# Altium footprint library Connector_Molex.PcbLib: 815 footprints (part 27 of 51)
Each footprint in its own frame and in the unit in brackets; x right, y up, seen from the top. Pads: shape width x height; smd on the part's side, far side on the other; paste and mask are expansions set on the pad; w line width, h text height; cw(c..) or ccw(c..) is an arc to the next point about the centre after c.
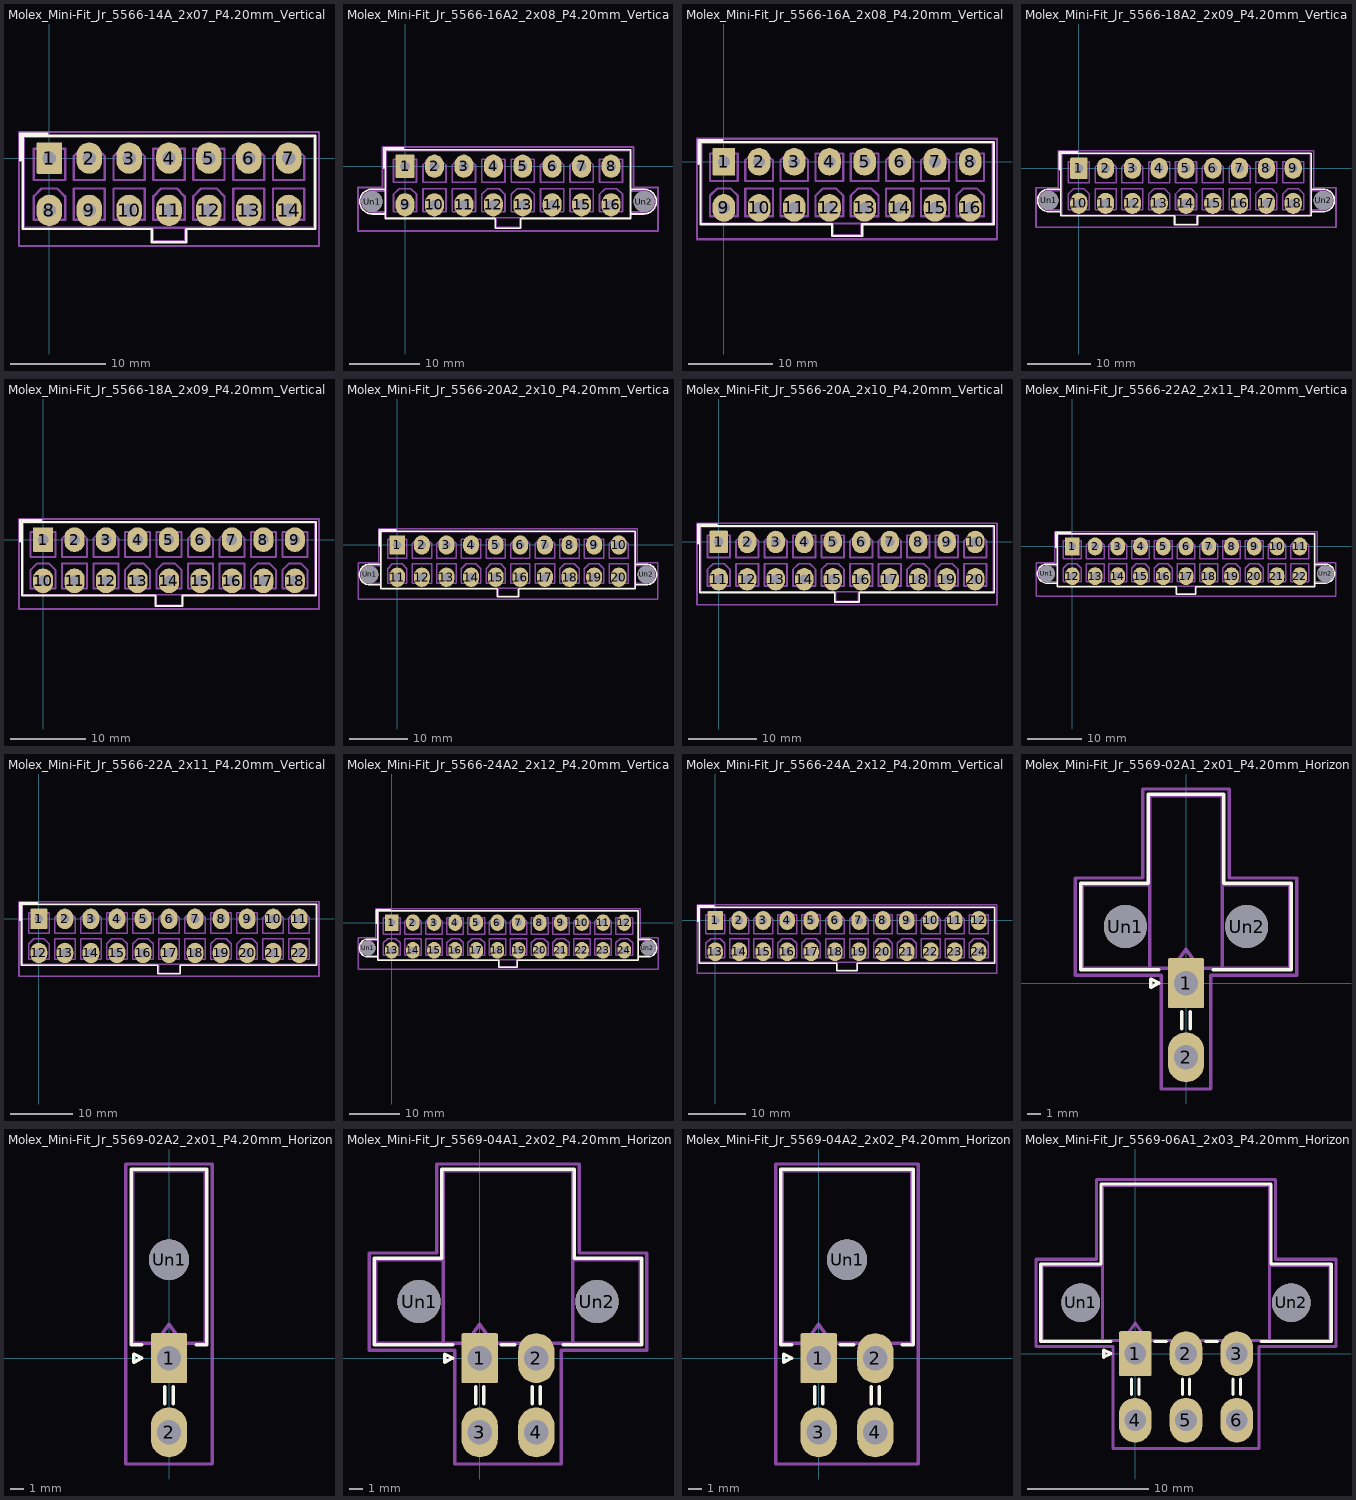
[diagram p26: the footprints below, top view; thin cyan lines are the x and y axes]

## Molex_Mini-Fit_Jr_5566-14A_2x07_P4.20mm_Vertical [mm]
pads (14):
  rrect9% 2.7x3.3 hole 1.4: 1(0,0)
  rrect100% 2.7x3.3 hole 1.4: 2(4.2,0) 3(8.4,0) 4(12.6,0) 5(16.8,0) 6(21,0) 7(25.2,0) 8(0,-5.5) 9(4.2,-5.5) 10(8.4,-5.5) 11(12.6,-5.5) 12(16.8,-5.5) 13(21,-5.5) 14(25.2,-5.5)
F.SilkS:
  lines w0.254: -3.05,-0.25 -3.05,2.6 -0.2,2.6 ; -2.81,-7.46 10.79,-7.46 10.79,-8.86 12.6,-8.86 14.41,-8.86 14.41,-7.46 28.01,-7.46 28.01,2.36 12.6,2.36 -2.81,2.36 -2.81,-7.46
Top Assembly:
  lines w0.254: -3.05,-0.25 -3.05,2.6 -0.2,2.6 ; 10.9,-7.35 10.9,-8.75 14.3,-8.75 14.3,-7.35 ; -2.7,-7.35 27.9,-7.35 27.9,2.25 -2.7,2.25 -2.7,-7.35 ; -1.65,-6.5 1.65,-6.5 1.65,-4.025 0.825,-3.2 -0.825,-3.2 -1.65,-4.025 -1.65,-6.5 ; -1.65,-2.3 1.65,-2.3 1.65,1 -1.65,1 -1.65,-2.3 ; 2.55,-6.5 5.85,-6.5 5.85,-3.2 2.55,-3.2 2.55,-6.5 ; 2.55,-2.3 5.85,-2.3 5.85,0.175 5.025,1 3.375,1 2.55,0.175 2.55,-2.3 ; 6.75,-6.5 10.05,-6.5 10.05,-3.2 6.75,-3.2 6.75,-6.5 ; 6.75,-2.3 10.05,-2.3 10.05,0.175 9.225,1 7.575,1 6.75,0.175 6.75,-2.3 ; 10.95,-6.5 14.25,-6.5 14.25,-4.025 13.425,-3.2 11.775,-3.2 10.95,-4.025 10.95,-6.5 ; 10.95,-2.3 14.25,-2.3 14.25,1 10.95,1 10.95,-2.3 ; 15.15,-6.5 18.45,-6.5 18.45,-4.025 17.625,-3.2 15.975,-3.2 15.15,-4.025 15.15,-6.5 ; 15.15,-2.3 18.45,-2.3 18.45,1 15.15,1 15.15,-2.3 ; 19.35,-6.5 22.65,-6.5 22.65,-3.2 19.35,-3.2 19.35,-6.5 ; 19.35,-2.3 22.65,-2.3 22.65,0.175 21.825,1 20.175,1 19.35,0.175 19.35,-2.3 ; 23.55,-6.5 26.85,-6.5 26.85,-3.2 23.55,-3.2 23.55,-6.5 ; 23.55,-2.3 26.85,-2.3 26.85,0.175 26.025,1 24.375,1 23.55,0.175 23.55,-2.3
  text "'.Designator'" at 8.553,0.71 h1
Top Courtyard:
  lines w0.254: -3.2,-9.25 28.4,-9.25 28.4,2.75 -3.2,2.75 -3.2,-9.25
Top Designator:
  text ".Designator" at 4.982,-3.758 h1.52

## Molex_Mini-Fit_Jr_5566-16A2_2x08_P4.20mm_Vertical [mm]
pads (18):
  rrect9% 2.7x3.3 hole 1.4: 1(0,0)
  rrect100% 2.7x3.3 hole 1.4: 2(4.2,0) 3(8.4,0) 4(12.6,0) 5(16.8,0) 6(21,0) 7(25.2,0) 8(29.4,0) 9(0,-5.5) 10(4.2,-5.5) 11(8.4,-5.5) 12(12.6,-5.5) 13(16.8,-5.5) 14(21,-5.5) 15(25.2,-5.5) 16(29.4,-5.5)
  round 3 hole 3: Un1(-4.7,-5.04) Un2(34.1,-5.04)
F.SilkS:
  lines w0.254: -3.05,-0.25 -3.05,2.6 -0.2,2.6 ; -2.81,-6.8 -4.7,-6.8 cw(c-4.7,-5.04) -4.7,-3.28 -2.81,-3.28 ; 32.21,-6.8 34.1,-6.8 ccw(c34.1,-5.04) 34.1,-3.28 32.21,-3.28 ; -2.81,-7.46 12.89,-7.46 12.89,-8.86 14.7,-8.86 16.51,-8.86 16.51,-7.46 32.21,-7.46 32.21,2.36 14.7,2.36 -2.81,2.36 -2.81,-7.46
Top Assembly:
  lines w0.254: -3.05,-0.25 -3.05,2.6 -0.2,2.6 ; -2.7,-6.54 -4.7,-6.54 cw(c-4.7,-5.04) -4.7,-3.54 -2.7,-3.54 ; 13,-7.35 13,-8.75 16.4,-8.75 16.4,-7.35 ; 32.1,-6.54 34.1,-6.54 ccw(c34.1,-5.04) 34.1,-3.54 32.1,-3.54 ; -2.7,-7.35 32.1,-7.35 32.1,2.25 -2.7,2.25 -2.7,-7.35 ; -1.65,-6.5 1.65,-6.5 1.65,-4.025 0.825,-3.2 -0.825,-3.2 -1.65,-4.025 -1.65,-6.5 ; -1.65,-2.3 1.65,-2.3 1.65,1 -1.65,1 -1.65,-2.3 ; 2.55,-6.5 5.85,-6.5 5.85,-3.2 2.55,-3.2 2.55,-6.5 ; 2.55,-2.3 5.85,-2.3 5.85,0.175 5.025,1 3.375,1 2.55,0.175 2.55,-2.3 ; 6.75,-6.5 10.05,-6.5 10.05,-3.2 6.75,-3.2 6.75,-6.5 ; 6.75,-2.3 10.05,-2.3 10.05,0.175 9.225,1 7.575,1 6.75,0.175 6.75,-2.3 ; 10.95,-6.5 14.25,-6.5 14.25,-4.025 13.425,-3.2 11.775,-3.2 10.95,-4.025 10.95,-6.5 ; 10.95,-2.3 14.25,-2.3 14.25,1 10.95,1 10.95,-2.3 ; 15.15,-6.5 18.45,-6.5 18.45,-4.025 17.625,-3.2 15.975,-3.2 15.15,-4.025 15.15,-6.5 ; 15.15,-2.3 18.45,-2.3 18.45,1 15.15,1 15.15,-2.3 ; 19.35,-6.5 22.65,-6.5 22.65,-3.2 19.35,-3.2 19.35,-6.5 ; 19.35,-2.3 22.65,-2.3 22.65,0.175 21.825,1 20.175,1 19.35,0.175 19.35,-2.3 ; 23.55,-6.5 26.85,-6.5 26.85,-3.2 23.55,-3.2 23.55,-6.5 ; 23.55,-2.3 26.85,-2.3 26.85,0.175 26.025,1 24.375,1 23.55,0.175 23.55,-2.3 ; 27.75,-6.5 31.05,-6.5 31.05,-4.025 30.225,-3.2 28.575,-3.2 27.75,-4.025 27.75,-6.5 ; 27.75,-2.3 31.05,-2.3 31.05,1 27.75,1 27.75,-2.3
  text "'.Designator'" at 10.653,0.71 h1
Top Courtyard:
  lines w0.254: -6.71,-9.25 36.1,-9.25 36.1,-3.04 32.6,-3.04 32.6,2.75 -3.21,2.75 -3.21,-3.04 -6.71,-3.04 -6.71,-9.25
Top Designator:
  text ".Designator" at 7.077,-3.758 h1.52

## Molex_Mini-Fit_Jr_5566-16A_2x08_P4.20mm_Vertical [mm]
pads (16):
  rrect9% 2.7x3.3 hole 1.4: 1(0,0)
  rrect100% 2.7x3.3 hole 1.4: 2(4.2,0) 3(8.4,0) 4(12.6,0) 5(16.8,0) 6(21,0) 7(25.2,0) 8(29.4,0) 9(0,-5.5) 10(4.2,-5.5) 11(8.4,-5.5) 12(12.6,-5.5) 13(16.8,-5.5) 14(21,-5.5) 15(25.2,-5.5) 16(29.4,-5.5)
F.SilkS:
  lines w0.254: -3.05,-0.25 -3.05,2.6 -0.2,2.6 ; -2.81,-7.46 12.89,-7.46 12.89,-8.86 14.7,-8.86 16.51,-8.86 16.51,-7.46 32.21,-7.46 32.21,2.36 14.7,2.36 -2.81,2.36 -2.81,-7.46
Top Assembly:
  lines w0.254: -3.05,-0.25 -3.05,2.6 -0.2,2.6 ; 13,-7.35 13,-8.75 16.4,-8.75 16.4,-7.35 ; -2.7,-7.35 32.1,-7.35 32.1,2.25 -2.7,2.25 -2.7,-7.35 ; -1.65,-6.5 1.65,-6.5 1.65,-4.025 0.825,-3.2 -0.825,-3.2 -1.65,-4.025 -1.65,-6.5 ; -1.65,-2.3 1.65,-2.3 1.65,1 -1.65,1 -1.65,-2.3 ; 2.55,-6.5 5.85,-6.5 5.85,-3.2 2.55,-3.2 2.55,-6.5 ; 2.55,-2.3 5.85,-2.3 5.85,0.175 5.025,1 3.375,1 2.55,0.175 2.55,-2.3 ; 6.75,-6.5 10.05,-6.5 10.05,-3.2 6.75,-3.2 6.75,-6.5 ; 6.75,-2.3 10.05,-2.3 10.05,0.175 9.225,1 7.575,1 6.75,0.175 6.75,-2.3 ; 10.95,-6.5 14.25,-6.5 14.25,-4.025 13.425,-3.2 11.775,-3.2 10.95,-4.025 10.95,-6.5 ; 10.95,-2.3 14.25,-2.3 14.25,1 10.95,1 10.95,-2.3 ; 15.15,-6.5 18.45,-6.5 18.45,-4.025 17.625,-3.2 15.975,-3.2 15.15,-4.025 15.15,-6.5 ; 15.15,-2.3 18.45,-2.3 18.45,1 15.15,1 15.15,-2.3 ; 19.35,-6.5 22.65,-6.5 22.65,-3.2 19.35,-3.2 19.35,-6.5 ; 19.35,-2.3 22.65,-2.3 22.65,0.175 21.825,1 20.175,1 19.35,0.175 19.35,-2.3 ; 23.55,-6.5 26.85,-6.5 26.85,-3.2 23.55,-3.2 23.55,-6.5 ; 23.55,-2.3 26.85,-2.3 26.85,0.175 26.025,1 24.375,1 23.55,0.175 23.55,-2.3 ; 27.75,-6.5 31.05,-6.5 31.05,-4.025 30.225,-3.2 28.575,-3.2 27.75,-4.025 27.75,-6.5 ; 27.75,-2.3 31.05,-2.3 31.05,1 27.75,1 27.75,-2.3
  text "'.Designator'" at 10.653,0.71 h1
Top Courtyard:
  lines w0.254: -3.21,-9.25 32.6,-9.25 32.6,2.75 -3.21,2.75 -3.21,-9.25
Top Designator:
  text ".Designator" at 7.077,-3.758 h1.52

## Molex_Mini-Fit_Jr_5566-18A2_2x09_P4.20mm_Vertical [mm]
pads (20):
  rrect9% 2.7x3.3 hole 1.4: 1(0,0)
  rrect100% 2.7x3.3 hole 1.4: 2(4.2,0) 3(8.4,0) 4(12.6,0) 5(16.8,0) 6(21,0) 7(25.2,0) 8(29.4,0) 9(33.6,0) 10(0,-5.5) 11(4.2,-5.5) 12(8.4,-5.5) 13(12.6,-5.5) 14(16.8,-5.5) 15(21,-5.5) 16(25.2,-5.5) 17(29.4,-5.5) 18(33.6,-5.5)
  round 3 hole 3: Un1(-4.7,-5.04) Un2(38.3,-5.04)
F.SilkS:
  lines w0.254: -3.05,-0.25 -3.05,2.6 -0.2,2.6 ; -2.81,-6.8 -4.7,-6.8 cw(c-4.7,-5.04) -4.7,-3.28 -2.81,-3.28 ; 36.41,-6.8 38.3,-6.8 ccw(c38.3,-5.04) 38.3,-3.28 36.41,-3.28 ; -2.81,-7.46 14.99,-7.46 14.99,-8.86 16.8,-8.86 18.61,-8.86 18.61,-7.46 36.41,-7.46 36.41,2.36 16.8,2.36 -2.81,2.36 -2.81,-7.46
Top Assembly:
  lines w0.254: -3.05,-0.25 -3.05,2.6 -0.2,2.6 ; -2.7,-6.54 -4.7,-6.54 cw(c-4.7,-5.04) -4.7,-3.54 -2.7,-3.54 ; 15.1,-7.35 15.1,-8.75 18.5,-8.75 18.5,-7.35 ; 36.3,-6.54 38.3,-6.54 ccw(c38.3,-5.04) 38.3,-3.54 36.3,-3.54 ; -2.7,-7.35 36.3,-7.35 36.3,2.25 -2.7,2.25 -2.7,-7.35 ; -1.65,-6.5 1.65,-6.5 1.65,-4.025 0.825,-3.2 -0.825,-3.2 -1.65,-4.025 -1.65,-6.5 ; -1.65,-2.3 1.65,-2.3 1.65,1 -1.65,1 -1.65,-2.3 ; 2.55,-6.5 5.85,-6.5 5.85,-3.2 2.55,-3.2 2.55,-6.5 ; 2.55,-2.3 5.85,-2.3 5.85,0.175 5.025,1 3.375,1 2.55,0.175 2.55,-2.3 ; 6.75,-6.5 10.05,-6.5 10.05,-3.2 6.75,-3.2 6.75,-6.5 ; 6.75,-2.3 10.05,-2.3 10.05,0.175 9.225,1 7.575,1 6.75,0.175 6.75,-2.3 ; 10.95,-6.5 14.25,-6.5 14.25,-4.025 13.425,-3.2 11.775,-3.2 10.95,-4.025 10.95,-6.5 ; 10.95,-2.3 14.25,-2.3 14.25,1 10.95,1 10.95,-2.3 ; 15.15,-6.5 18.45,-6.5 18.45,-4.025 17.625,-3.2 15.975,-3.2 15.15,-4.025 15.15,-6.5 ; 15.15,-2.3 18.45,-2.3 18.45,1 15.15,1 15.15,-2.3 ; 19.35,-6.5 22.65,-6.5 22.65,-3.2 19.35,-3.2 19.35,-6.5 ; 19.35,-2.3 22.65,-2.3 22.65,0.175 21.825,1 20.175,1 19.35,0.175 19.35,-2.3 ; 23.55,-6.5 26.85,-6.5 26.85,-3.2 23.55,-3.2 23.55,-6.5 ; 23.55,-2.3 26.85,-2.3 26.85,0.175 26.025,1 24.375,1 23.55,0.175 23.55,-2.3 ; 27.75,-6.5 31.05,-6.5 31.05,-4.025 30.225,-3.2 28.575,-3.2 27.75,-4.025 27.75,-6.5 ; 27.75,-2.3 31.05,-2.3 31.05,1 27.75,1 27.75,-2.3 ; 31.95,-6.5 35.25,-6.5 35.25,-4.025 34.425,-3.2 32.775,-3.2 31.95,-4.025 31.95,-6.5 ; 31.95,-2.3 35.25,-2.3 35.25,1 31.95,1 31.95,-2.3
  text "'.Designator'" at 12.753,0.71 h1
Top Courtyard:
  lines w0.254: -6.71,-9.25 40.31,-9.25 40.31,-3.04 36.81,-3.04 36.81,2.75 -3.21,2.75 -3.21,-3.04 -6.71,-3.04 -6.71,-9.25
Top Designator:
  text ".Designator" at 9.182,-3.758 h1.52

## Molex_Mini-Fit_Jr_5566-18A_2x09_P4.20mm_Vertical [mm]
pads (18):
  rrect9% 2.7x3.3 hole 1.4: 1(0,0)
  rrect100% 2.7x3.3 hole 1.4: 2(4.2,0) 3(8.4,0) 4(12.6,0) 5(16.8,0) 6(21,0) 7(25.2,0) 8(29.4,0) 9(33.6,0) 10(0,-5.5) 11(4.2,-5.5) 12(8.4,-5.5) 13(12.6,-5.5) 14(16.8,-5.5) 15(21,-5.5) 16(25.2,-5.5) 17(29.4,-5.5) 18(33.6,-5.5)
F.SilkS:
  lines w0.254: -3.05,-0.25 -3.05,2.6 -0.2,2.6 ; -2.81,-7.46 14.99,-7.46 14.99,-8.86 16.8,-8.86 18.61,-8.86 18.61,-7.46 36.41,-7.46 36.41,2.36 16.8,2.36 -2.81,2.36 -2.81,-7.46
Top Assembly:
  lines w0.254: -3.05,-0.25 -3.05,2.6 -0.2,2.6 ; 15.1,-7.35 15.1,-8.75 18.5,-8.75 18.5,-7.35 ; -2.7,-7.35 36.3,-7.35 36.3,2.25 -2.7,2.25 -2.7,-7.35 ; -1.65,-6.5 1.65,-6.5 1.65,-4.025 0.825,-3.2 -0.825,-3.2 -1.65,-4.025 -1.65,-6.5 ; -1.65,-2.3 1.65,-2.3 1.65,1 -1.65,1 -1.65,-2.3 ; 2.55,-6.5 5.85,-6.5 5.85,-3.2 2.55,-3.2 2.55,-6.5 ; 2.55,-2.3 5.85,-2.3 5.85,0.175 5.025,1 3.375,1 2.55,0.175 2.55,-2.3 ; 6.75,-6.5 10.05,-6.5 10.05,-3.2 6.75,-3.2 6.75,-6.5 ; 6.75,-2.3 10.05,-2.3 10.05,0.175 9.225,1 7.575,1 6.75,0.175 6.75,-2.3 ; 10.95,-6.5 14.25,-6.5 14.25,-4.025 13.425,-3.2 11.775,-3.2 10.95,-4.025 10.95,-6.5 ; 10.95,-2.3 14.25,-2.3 14.25,1 10.95,1 10.95,-2.3 ; 15.15,-6.5 18.45,-6.5 18.45,-4.025 17.625,-3.2 15.975,-3.2 15.15,-4.025 15.15,-6.5 ; 15.15,-2.3 18.45,-2.3 18.45,1 15.15,1 15.15,-2.3 ; 19.35,-6.5 22.65,-6.5 22.65,-3.2 19.35,-3.2 19.35,-6.5 ; 19.35,-2.3 22.65,-2.3 22.65,0.175 21.825,1 20.175,1 19.35,0.175 19.35,-2.3 ; 23.55,-6.5 26.85,-6.5 26.85,-3.2 23.55,-3.2 23.55,-6.5 ; 23.55,-2.3 26.85,-2.3 26.85,0.175 26.025,1 24.375,1 23.55,0.175 23.55,-2.3 ; 27.75,-6.5 31.05,-6.5 31.05,-4.025 30.225,-3.2 28.575,-3.2 27.75,-4.025 27.75,-6.5 ; 27.75,-2.3 31.05,-2.3 31.05,1 27.75,1 27.75,-2.3 ; 31.95,-6.5 35.25,-6.5 35.25,-4.025 34.425,-3.2 32.775,-3.2 31.95,-4.025 31.95,-6.5 ; 31.95,-2.3 35.25,-2.3 35.25,1 31.95,1 31.95,-2.3
  text "'.Designator'" at 12.753,0.71 h1
Top Courtyard:
  lines w0.254: -3.21,-9.25 36.81,-9.25 36.81,2.75 -3.21,2.75 -3.21,-9.25
Top Designator:
  text ".Designator" at 9.182,-3.758 h1.52

## Molex_Mini-Fit_Jr_5566-20A2_2x10_P4.20mm_Vertical [mm]
pads (22):
  rrect9% 2.7x3.3 hole 1.4: 1(0,0)
  rrect100% 2.7x3.3 hole 1.4: 2(4.2,0) 3(8.4,0) 4(12.6,0) 5(16.8,0) 6(21,0) 7(25.2,0) 8(29.4,0) 9(33.6,0) 10(37.8,0) 11(0,-5.5) 12(4.2,-5.5) 13(8.4,-5.5) 14(12.6,-5.5) 15(16.8,-5.5) 16(21,-5.5) 17(25.2,-5.5) 18(29.4,-5.5) 19(33.6,-5.5) 20(37.8,-5.5)
  round 3 hole 3: Un1(-4.7,-5.04) Un2(42.5,-5.04)
F.SilkS:
  lines w0.254: -3.05,-0.25 -3.05,2.6 -0.2,2.6 ; -2.81,-6.8 -4.7,-6.8 cw(c-4.7,-5.04) -4.7,-3.28 -2.81,-3.28 ; 40.61,-6.8 42.5,-6.8 ccw(c42.5,-5.04) 42.5,-3.28 40.61,-3.28 ; -2.81,-7.46 17.09,-7.46 17.09,-8.86 18.9,-8.86 20.71,-8.86 20.71,-7.46 40.61,-7.46 40.61,2.36 18.9,2.36 -2.81,2.36 -2.81,-7.46
Top Assembly:
  lines w0.254: -3.05,-0.25 -3.05,2.6 -0.2,2.6 ; -2.7,-6.54 -4.7,-6.54 cw(c-4.7,-5.04) -4.7,-3.54 -2.7,-3.54 ; 17.2,-7.35 17.2,-8.75 20.6,-8.75 20.6,-7.35 ; 40.5,-6.54 42.5,-6.54 ccw(c42.5,-5.04) 42.5,-3.54 40.5,-3.54 ; -2.7,-7.35 40.5,-7.35 40.5,2.25 -2.7,2.25 -2.7,-7.35 ; -1.65,-6.5 1.65,-6.5 1.65,-4.025 0.825,-3.2 -0.825,-3.2 -1.65,-4.025 -1.65,-6.5 ; -1.65,-2.3 1.65,-2.3 1.65,1 -1.65,1 -1.65,-2.3 ; 2.55,-6.5 5.85,-6.5 5.85,-3.2 2.55,-3.2 2.55,-6.5 ; 2.55,-2.3 5.85,-2.3 5.85,0.175 5.025,1 3.375,1 2.55,0.175 2.55,-2.3 ; 6.75,-6.5 10.05,-6.5 10.05,-3.2 6.75,-3.2 6.75,-6.5 ; 6.75,-2.3 10.05,-2.3 10.05,0.175 9.225,1 7.575,1 6.75,0.175 6.75,-2.3 ; 10.95,-6.5 14.25,-6.5 14.25,-4.025 13.425,-3.2 11.775,-3.2 10.95,-4.025 10.95,-6.5 ; 10.95,-2.3 14.25,-2.3 14.25,1 10.95,1 10.95,-2.3 ; 15.15,-6.5 18.45,-6.5 18.45,-4.025 17.625,-3.2 15.975,-3.2 15.15,-4.025 15.15,-6.5 ; 15.15,-2.3 18.45,-2.3 18.45,1 15.15,1 15.15,-2.3 ; 19.35,-6.5 22.65,-6.5 22.65,-3.2 19.35,-3.2 19.35,-6.5 ; 19.35,-2.3 22.65,-2.3 22.65,0.175 21.825,1 20.175,1 19.35,0.175 19.35,-2.3 ; 23.55,-6.5 26.85,-6.5 26.85,-3.2 23.55,-3.2 23.55,-6.5 ; 23.55,-2.3 26.85,-2.3 26.85,0.175 26.025,1 24.375,1 23.55,0.175 23.55,-2.3 ; 27.75,-6.5 31.05,-6.5 31.05,-4.025 30.225,-3.2 28.575,-3.2 27.75,-4.025 27.75,-6.5 ; 27.75,-2.3 31.05,-2.3 31.05,1 27.75,1 27.75,-2.3 ; 31.95,-6.5 35.25,-6.5 35.25,-4.025 34.425,-3.2 32.775,-3.2 31.95,-4.025 31.95,-6.5 ; 31.95,-2.3 35.25,-2.3 35.25,1 31.95,1 31.95,-2.3 ; 36.15,-6.5 39.45,-6.5 39.45,-3.2 36.15,-3.2 36.15,-6.5 ; 36.15,-2.3 39.45,-2.3 39.45,0.175 38.625,1 36.975,1 36.15,0.175 36.15,-2.3
  text "'.Designator'" at 14.853,0.71 h1
Top Courtyard:
  lines w0.254: -6.7,-9.25 44.5,-9.25 44.5,-3.04 41,-3.04 41,2.75 -3.2,2.75 -3.2,-3.04 -6.7,-3.04 -6.7,-9.25
Top Designator:
  text ".Designator" at 11.282,-3.758 h1.52

## Molex_Mini-Fit_Jr_5566-20A_2x10_P4.20mm_Vertical [mm]
pads (20):
  rrect9% 2.7x3.3 hole 1.4: 1(0,0)
  rrect100% 2.7x3.3 hole 1.4: 2(4.2,0) 3(8.4,0) 4(12.6,0) 5(16.8,0) 6(21,0) 7(25.2,0) 8(29.4,0) 9(33.6,0) 10(37.8,0) 11(0,-5.5) 12(4.2,-5.5) 13(8.4,-5.5) 14(12.6,-5.5) 15(16.8,-5.5) 16(21,-5.5) 17(25.2,-5.5) 18(29.4,-5.5) 19(33.6,-5.5) 20(37.8,-5.5)
F.SilkS:
  lines w0.254: -3.05,-0.25 -3.05,2.6 -0.2,2.6 ; -2.81,-7.46 17.09,-7.46 17.09,-8.86 18.9,-8.86 20.71,-8.86 20.71,-7.46 40.61,-7.46 40.61,2.36 18.9,2.36 -2.81,2.36 -2.81,-7.46
Top Assembly:
  lines w0.254: -3.05,-0.25 -3.05,2.6 -0.2,2.6 ; 17.2,-7.35 17.2,-8.75 20.6,-8.75 20.6,-7.35 ; -2.7,-7.35 40.5,-7.35 40.5,2.25 -2.7,2.25 -2.7,-7.35 ; -1.65,-6.5 1.65,-6.5 1.65,-4.025 0.825,-3.2 -0.825,-3.2 -1.65,-4.025 -1.65,-6.5 ; -1.65,-2.3 1.65,-2.3 1.65,1 -1.65,1 -1.65,-2.3 ; 2.55,-6.5 5.85,-6.5 5.85,-3.2 2.55,-3.2 2.55,-6.5 ; 2.55,-2.3 5.85,-2.3 5.85,0.175 5.025,1 3.375,1 2.55,0.175 2.55,-2.3 ; 6.75,-6.5 10.05,-6.5 10.05,-3.2 6.75,-3.2 6.75,-6.5 ; 6.75,-2.3 10.05,-2.3 10.05,0.175 9.225,1 7.575,1 6.75,0.175 6.75,-2.3 ; 10.95,-6.5 14.25,-6.5 14.25,-4.025 13.425,-3.2 11.775,-3.2 10.95,-4.025 10.95,-6.5 ; 10.95,-2.3 14.25,-2.3 14.25,1 10.95,1 10.95,-2.3 ; 15.15,-6.5 18.45,-6.5 18.45,-4.025 17.625,-3.2 15.975,-3.2 15.15,-4.025 15.15,-6.5 ; 15.15,-2.3 18.45,-2.3 18.45,1 15.15,1 15.15,-2.3 ; 19.35,-6.5 22.65,-6.5 22.65,-3.2 19.35,-3.2 19.35,-6.5 ; 19.35,-2.3 22.65,-2.3 22.65,0.175 21.825,1 20.175,1 19.35,0.175 19.35,-2.3 ; 23.55,-6.5 26.85,-6.5 26.85,-3.2 23.55,-3.2 23.55,-6.5 ; 23.55,-2.3 26.85,-2.3 26.85,0.175 26.025,1 24.375,1 23.55,0.175 23.55,-2.3 ; 27.75,-6.5 31.05,-6.5 31.05,-4.025 30.225,-3.2 28.575,-3.2 27.75,-4.025 27.75,-6.5 ; 27.75,-2.3 31.05,-2.3 31.05,1 27.75,1 27.75,-2.3 ; 31.95,-6.5 35.25,-6.5 35.25,-4.025 34.425,-3.2 32.775,-3.2 31.95,-4.025 31.95,-6.5 ; 31.95,-2.3 35.25,-2.3 35.25,1 31.95,1 31.95,-2.3 ; 36.15,-6.5 39.45,-6.5 39.45,-3.2 36.15,-3.2 36.15,-6.5 ; 36.15,-2.3 39.45,-2.3 39.45,0.175 38.625,1 36.975,1 36.15,0.175 36.15,-2.3
  text "'.Designator'" at 14.853,0.71 h1
Top Courtyard:
  lines w0.254: -3.2,-9.25 41,-9.25 41,2.75 -3.2,2.75 -3.2,-9.25
Top Designator:
  text ".Designator" at 11.282,-3.758 h1.52

## Molex_Mini-Fit_Jr_5566-22A2_2x11_P4.20mm_Vertical [mm]
pads (24):
  rrect9% 2.7x3.3 hole 1.4: 1(0,0)
  rrect100% 2.7x3.3 hole 1.4: 2(4.2,0) 3(8.4,0) 4(12.6,0) 5(16.8,0) 6(21,0) 7(25.2,0) 8(29.4,0) 9(33.6,0) 10(37.8,0) 11(42,0) 12(0,-5.5) 13(4.2,-5.5) 14(8.4,-5.5) 15(12.6,-5.5) 16(16.8,-5.5) 17(21,-5.5) 18(25.2,-5.5) 19(29.4,-5.5) 20(33.6,-5.5) 21(37.8,-5.5) 22(42,-5.5)
  round 3 hole 3: Un1(-4.7,-5.04) Un2(46.7,-5.04)
F.SilkS:
  lines w0.254: -3.05,-0.25 -3.05,2.6 -0.2,2.6 ; -2.81,-6.8 -4.7,-6.8 cw(c-4.7,-5.04) -4.7,-3.28 -2.81,-3.28 ; 44.81,-6.8 46.7,-6.8 ccw(c46.7,-5.04) 46.7,-3.28 44.81,-3.28 ; -2.81,-7.46 19.19,-7.46 19.19,-8.86 21,-8.86 22.81,-8.86 22.81,-7.46 44.81,-7.46 44.81,2.36 21,2.36 -2.81,2.36 -2.81,-7.46
Top Assembly:
  lines w0.254: -3.05,-0.25 -3.05,2.6 -0.2,2.6 ; -2.7,-6.54 -4.7,-6.54 cw(c-4.7,-5.04) -4.7,-3.54 -2.7,-3.54 ; 19.3,-7.35 19.3,-8.75 22.7,-8.75 22.7,-7.35 ; 44.7,-6.54 46.7,-6.54 ccw(c46.7,-5.04) 46.7,-3.54 44.7,-3.54 ; -2.7,-7.35 44.7,-7.35 44.7,2.25 -2.7,2.25 -2.7,-7.35 ; -1.65,-6.5 1.65,-6.5 1.65,-4.025 0.825,-3.2 -0.825,-3.2 -1.65,-4.025 -1.65,-6.5 ; -1.65,-2.3 1.65,-2.3 1.65,1 -1.65,1 -1.65,-2.3 ; 2.55,-6.5 5.85,-6.5 5.85,-3.2 2.55,-3.2 2.55,-6.5 ; 2.55,-2.3 5.85,-2.3 5.85,0.175 5.025,1 3.375,1 2.55,0.175 2.55,-2.3 ; 6.75,-6.5 10.05,-6.5 10.05,-3.2 6.75,-3.2 6.75,-6.5 ; 6.75,-2.3 10.05,-2.3 10.05,0.175 9.225,1 7.575,1 6.75,0.175 6.75,-2.3 ; 10.95,-6.5 14.25,-6.5 14.25,-4.025 13.425,-3.2 11.775,-3.2 10.95,-4.025 10.95,-6.5 ; 10.95,-2.3 14.25,-2.3 14.25,1 10.95,1 10.95,-2.3 ; 15.15,-6.5 18.45,-6.5 18.45,-4.025 17.625,-3.2 15.975,-3.2 15.15,-4.025 15.15,-6.5 ; 15.15,-2.3 18.45,-2.3 18.45,1 15.15,1 15.15,-2.3 ; 19.35,-6.5 22.65,-6.5 22.65,-3.2 19.35,-3.2 19.35,-6.5 ; 19.35,-2.3 22.65,-2.3 22.65,0.175 21.825,1 20.175,1 19.35,0.175 19.35,-2.3 ; 23.55,-6.5 26.85,-6.5 26.85,-3.2 23.55,-3.2 23.55,-6.5 ; 23.55,-2.3 26.85,-2.3 26.85,0.175 26.025,1 24.375,1 23.55,0.175 23.55,-2.3 ; 27.75,-6.5 31.05,-6.5 31.05,-4.025 30.225,-3.2 28.575,-3.2 27.75,-4.025 27.75,-6.5 ; 27.75,-2.3 31.05,-2.3 31.05,1 27.75,1 27.75,-2.3 ; 31.95,-6.5 35.25,-6.5 35.25,-4.025 34.425,-3.2 32.775,-3.2 31.95,-4.025 31.95,-6.5 ; 31.95,-2.3 35.25,-2.3 35.25,1 31.95,1 31.95,-2.3 ; 36.15,-6.5 39.45,-6.5 39.45,-3.2 36.15,-3.2 36.15,-6.5 ; 36.15,-2.3 39.45,-2.3 39.45,0.175 38.625,1 36.975,1 36.15,0.175 36.15,-2.3 ; 40.35,-6.5 43.65,-6.5 43.65,-3.2 40.35,-3.2 40.35,-6.5 ; 40.35,-2.3 43.65,-2.3 43.65,0.175 42.825,1 41.175,1 40.35,0.175 40.35,-2.3
  text "'.Designator'" at 16.953,0.71 h1
Top Courtyard:
  lines w0.254: -6.71,-9.25 48.7,-9.25 48.7,-3.04 45.2,-3.04 45.2,2.75 -3.21,2.75 -3.21,-3.04 -6.71,-3.04 -6.71,-9.25
Top Designator:
  text ".Designator" at 13.377,-3.758 h1.52

## Molex_Mini-Fit_Jr_5566-22A_2x11_P4.20mm_Vertical [mm]
pads (22):
  rrect9% 2.7x3.3 hole 1.4: 1(0,0)
  rrect100% 2.7x3.3 hole 1.4: 2(4.2,0) 3(8.4,0) 4(12.6,0) 5(16.8,0) 6(21,0) 7(25.2,0) 8(29.4,0) 9(33.6,0) 10(37.8,0) 11(42,0) 12(0,-5.5) 13(4.2,-5.5) 14(8.4,-5.5) 15(12.6,-5.5) 16(16.8,-5.5) 17(21,-5.5) 18(25.2,-5.5) 19(29.4,-5.5) 20(33.6,-5.5) 21(37.8,-5.5) 22(42,-5.5)
F.SilkS:
  lines w0.254: -3.05,-0.25 -3.05,2.6 -0.2,2.6 ; -2.81,-7.46 19.19,-7.46 19.19,-8.86 21,-8.86 22.81,-8.86 22.81,-7.46 44.81,-7.46 44.81,2.36 21,2.36 -2.81,2.36 -2.81,-7.46
Top Assembly:
  lines w0.254: -3.05,-0.25 -3.05,2.6 -0.2,2.6 ; 19.3,-7.35 19.3,-8.75 22.7,-8.75 22.7,-7.35 ; -2.7,-7.35 44.7,-7.35 44.7,2.25 -2.7,2.25 -2.7,-7.35 ; -1.65,-6.5 1.65,-6.5 1.65,-4.025 0.825,-3.2 -0.825,-3.2 -1.65,-4.025 -1.65,-6.5 ; -1.65,-2.3 1.65,-2.3 1.65,1 -1.65,1 -1.65,-2.3 ; 2.55,-6.5 5.85,-6.5 5.85,-3.2 2.55,-3.2 2.55,-6.5 ; 2.55,-2.3 5.85,-2.3 5.85,0.175 5.025,1 3.375,1 2.55,0.175 2.55,-2.3 ; 6.75,-6.5 10.05,-6.5 10.05,-3.2 6.75,-3.2 6.75,-6.5 ; 6.75,-2.3 10.05,-2.3 10.05,0.175 9.225,1 7.575,1 6.75,0.175 6.75,-2.3 ; 10.95,-6.5 14.25,-6.5 14.25,-4.025 13.425,-3.2 11.775,-3.2 10.95,-4.025 10.95,-6.5 ; 10.95,-2.3 14.25,-2.3 14.25,1 10.95,1 10.95,-2.3 ; 15.15,-6.5 18.45,-6.5 18.45,-4.025 17.625,-3.2 15.975,-3.2 15.15,-4.025 15.15,-6.5 ; 15.15,-2.3 18.45,-2.3 18.45,1 15.15,1 15.15,-2.3 ; 19.35,-6.5 22.65,-6.5 22.65,-3.2 19.35,-3.2 19.35,-6.5 ; 19.35,-2.3 22.65,-2.3 22.65,0.175 21.825,1 20.175,1 19.35,0.175 19.35,-2.3 ; 23.55,-6.5 26.85,-6.5 26.85,-3.2 23.55,-3.2 23.55,-6.5 ; 23.55,-2.3 26.85,-2.3 26.85,0.175 26.025,1 24.375,1 23.55,0.175 23.55,-2.3 ; 27.75,-6.5 31.05,-6.5 31.05,-4.025 30.225,-3.2 28.575,-3.2 27.75,-4.025 27.75,-6.5 ; 27.75,-2.3 31.05,-2.3 31.05,1 27.75,1 27.75,-2.3 ; 31.95,-6.5 35.25,-6.5 35.25,-4.025 34.425,-3.2 32.775,-3.2 31.95,-4.025 31.95,-6.5 ; 31.95,-2.3 35.25,-2.3 35.25,1 31.95,1 31.95,-2.3 ; 36.15,-6.5 39.45,-6.5 39.45,-3.2 36.15,-3.2 36.15,-6.5 ; 36.15,-2.3 39.45,-2.3 39.45,0.175 38.625,1 36.975,1 36.15,0.175 36.15,-2.3 ; 40.35,-6.5 43.65,-6.5 43.65,-3.2 40.35,-3.2 40.35,-6.5 ; 40.35,-2.3 43.65,-2.3 43.65,0.175 42.825,1 41.175,1 40.35,0.175 40.35,-2.3
  text "'.Designator'" at 16.953,0.71 h1
Top Courtyard:
  lines w0.254: -3.21,-9.25 45.2,-9.25 45.2,2.75 -3.21,2.75 -3.21,-9.25
Top Designator:
  text ".Designator" at 13.377,-3.758 h1.52

## Molex_Mini-Fit_Jr_5566-24A2_2x12_P4.20mm_Vertical [mm]
pads (26):
  rrect9% 2.7x3.3 hole 1.4: 1(0,0)
  rrect100% 2.7x3.3 hole 1.4: 2(4.2,0) 3(8.4,0) 4(12.6,0) 5(16.8,0) 6(21,0) 7(25.2,0) 8(29.4,0) 9(33.6,0) 10(37.8,0) 11(42,0) 12(46.2,0) 13(0,-5.5) 14(4.2,-5.5) 15(8.4,-5.5) 16(12.6,-5.5) 17(16.8,-5.5) 18(21,-5.5) 19(25.2,-5.5) 20(29.4,-5.5) 21(33.6,-5.5) 22(37.8,-5.5) 23(42,-5.5) 24(46.2,-5.5)
  round 3 hole 3: Un1(-4.7,-5.04) Un2(50.9,-5.04)
F.SilkS:
  lines w0.254: -3.05,-0.25 -3.05,2.6 -0.2,2.6 ; -2.81,-6.8 -4.7,-6.8 cw(c-4.7,-5.04) -4.7,-3.28 -2.81,-3.28 ; 49.01,-6.8 50.9,-6.8 ccw(c50.9,-5.04) 50.9,-3.28 49.01,-3.28 ; -2.81,-7.46 21.29,-7.46 21.29,-8.86 23.1,-8.86 24.91,-8.86 24.91,-7.46 49.01,-7.46 49.01,2.36 23.1,2.36 -2.81,2.36 -2.81,-7.46
Top Assembly:
  lines w0.254: -3.05,-0.25 -3.05,2.6 -0.2,2.6 ; -2.7,-6.54 -4.7,-6.54 cw(c-4.7,-5.04) -4.7,-3.54 -2.7,-3.54 ; 21.4,-7.35 21.4,-8.75 24.8,-8.75 24.8,-7.35 ; 48.9,-6.54 50.9,-6.54 ccw(c50.9,-5.04) 50.9,-3.54 48.9,-3.54 ; -2.7,-7.35 48.9,-7.35 48.9,2.25 -2.7,2.25 -2.7,-7.35 ; -1.65,-6.5 1.65,-6.5 1.65,-4.025 0.825,-3.2 -0.825,-3.2 -1.65,-4.025 -1.65,-6.5 ; -1.65,-2.3 1.65,-2.3 1.65,1 -1.65,1 -1.65,-2.3 ; 2.55,-6.5 5.85,-6.5 5.85,-3.2 2.55,-3.2 2.55,-6.5 ; 2.55,-2.3 5.85,-2.3 5.85,0.175 5.025,1 3.375,1 2.55,0.175 2.55,-2.3 ; 6.75,-6.5 10.05,-6.5 10.05,-3.2 6.75,-3.2 6.75,-6.5 ; 6.75,-2.3 10.05,-2.3 10.05,0.175 9.225,1 7.575,1 6.75,0.175 6.75,-2.3 ; 10.95,-6.5 14.25,-6.5 14.25,-4.025 13.425,-3.2 11.775,-3.2 10.95,-4.025 10.95,-6.5 ; 10.95,-2.3 14.25,-2.3 14.25,1 10.95,1 10.95,-2.3 ; 15.15,-6.5 18.45,-6.5 18.45,-4.025 17.625,-3.2 15.975,-3.2 15.15,-4.025 15.15,-6.5 ; 15.15,-2.3 18.45,-2.3 18.45,1 15.15,1 15.15,-2.3 ; 19.35,-6.5 22.65,-6.5 22.65,-3.2 19.35,-3.2 19.35,-6.5 ; 19.35,-2.3 22.65,-2.3 22.65,0.175 21.825,1 20.175,1 19.35,0.175 19.35,-2.3 ; 23.55,-6.5 26.85,-6.5 26.85,-3.2 23.55,-3.2 23.55,-6.5 ; 23.55,-2.3 26.85,-2.3 26.85,0.175 26.025,1 24.375,1 23.55,0.175 23.55,-2.3 ; 27.75,-6.5 31.05,-6.5 31.05,-4.025 30.225,-3.2 28.575,-3.2 27.75,-4.025 27.75,-6.5 ; 27.75,-2.3 31.05,-2.3 31.05,1 27.75,1 27.75,-2.3 ; 31.95,-6.5 35.25,-6.5 35.25,-4.025 34.425,-3.2 32.775,-3.2 31.95,-4.025 31.95,-6.5 ; 31.95,-2.3 35.25,-2.3 35.25,1 31.95,1 31.95,-2.3 ; 36.15,-6.5 39.45,-6.5 39.45,-3.2 36.15,-3.2 36.15,-6.5 ; 36.15,-2.3 39.45,-2.3 39.45,0.175 38.625,1 36.975,1 36.15,0.175 36.15,-2.3 ; 40.35,-6.5 43.65,-6.5 43.65,-3.2 40.35,-3.2 40.35,-6.5 ; 40.35,-2.3 43.65,-2.3 43.65,0.175 42.825,1 41.175,1 40.35,0.175 40.35,-2.3 ; 44.55,-6.5 47.85,-6.5 47.85,-4.025 47.025,-3.2 45.375,-3.2 44.55,-4.025 44.55,-6.5 ; 44.55,-2.3 47.85,-2.3 47.85,1 44.55,1 44.55,-2.3
  text "'.Designator'" at 19.053,0.71 h1
Top Courtyard:
  lines w0.254: -6.71,-9.25 52.91,-9.25 52.91,-3.04 49.41,-3.04 49.41,2.75 -3.21,2.75 -3.21,-3.04 -6.71,-3.04 -6.71,-9.25
Top Designator:
  text ".Designator" at 15.482,-3.758 h1.52

## Molex_Mini-Fit_Jr_5566-24A_2x12_P4.20mm_Vertical [mm]
pads (24):
  rrect9% 2.7x3.3 hole 1.4: 1(0,0)
  rrect100% 2.7x3.3 hole 1.4: 2(4.2,0) 3(8.4,0) 4(12.6,0) 5(16.8,0) 6(21,0) 7(25.2,0) 8(29.4,0) 9(33.6,0) 10(37.8,0) 11(42,0) 12(46.2,0) 13(0,-5.5) 14(4.2,-5.5) 15(8.4,-5.5) 16(12.6,-5.5) 17(16.8,-5.5) 18(21,-5.5) 19(25.2,-5.5) 20(29.4,-5.5) 21(33.6,-5.5) 22(37.8,-5.5) 23(42,-5.5) 24(46.2,-5.5)
F.SilkS:
  lines w0.254: -3.05,-0.25 -3.05,2.6 -0.2,2.6 ; -2.81,-7.46 21.29,-7.46 21.29,-8.86 23.1,-8.86 24.91,-8.86 24.91,-7.46 49.01,-7.46 49.01,2.36 23.1,2.36 -2.81,2.36 -2.81,-7.46
Top Assembly:
  lines w0.254: -3.05,-0.25 -3.05,2.6 -0.2,2.6 ; 21.4,-7.35 21.4,-8.75 24.8,-8.75 24.8,-7.35 ; -2.7,-7.35 48.9,-7.35 48.9,2.25 -2.7,2.25 -2.7,-7.35 ; -1.65,-6.5 1.65,-6.5 1.65,-4.025 0.825,-3.2 -0.825,-3.2 -1.65,-4.025 -1.65,-6.5 ; -1.65,-2.3 1.65,-2.3 1.65,1 -1.65,1 -1.65,-2.3 ; 2.55,-6.5 5.85,-6.5 5.85,-3.2 2.55,-3.2 2.55,-6.5 ; 2.55,-2.3 5.85,-2.3 5.85,0.175 5.025,1 3.375,1 2.55,0.175 2.55,-2.3 ; 6.75,-6.5 10.05,-6.5 10.05,-3.2 6.75,-3.2 6.75,-6.5 ; 6.75,-2.3 10.05,-2.3 10.05,0.175 9.225,1 7.575,1 6.75,0.175 6.75,-2.3 ; 10.95,-6.5 14.25,-6.5 14.25,-4.025 13.425,-3.2 11.775,-3.2 10.95,-4.025 10.95,-6.5 ; 10.95,-2.3 14.25,-2.3 14.25,1 10.95,1 10.95,-2.3 ; 15.15,-6.5 18.45,-6.5 18.45,-4.025 17.625,-3.2 15.975,-3.2 15.15,-4.025 15.15,-6.5 ; 15.15,-2.3 18.45,-2.3 18.45,1 15.15,1 15.15,-2.3 ; 19.35,-6.5 22.65,-6.5 22.65,-3.2 19.35,-3.2 19.35,-6.5 ; 19.35,-2.3 22.65,-2.3 22.65,0.175 21.825,1 20.175,1 19.35,0.175 19.35,-2.3 ; 23.55,-6.5 26.85,-6.5 26.85,-3.2 23.55,-3.2 23.55,-6.5 ; 23.55,-2.3 26.85,-2.3 26.85,0.175 26.025,1 24.375,1 23.55,0.175 23.55,-2.3 ; 27.75,-6.5 31.05,-6.5 31.05,-4.025 30.225,-3.2 28.575,-3.2 27.75,-4.025 27.75,-6.5 ; 27.75,-2.3 31.05,-2.3 31.05,1 27.75,1 27.75,-2.3 ; 31.95,-6.5 35.25,-6.5 35.25,-4.025 34.425,-3.2 32.775,-3.2 31.95,-4.025 31.95,-6.5 ; 31.95,-2.3 35.25,-2.3 35.25,1 31.95,1 31.95,-2.3 ; 36.15,-6.5 39.45,-6.5 39.45,-3.2 36.15,-3.2 36.15,-6.5 ; 36.15,-2.3 39.45,-2.3 39.45,0.175 38.625,1 36.975,1 36.15,0.175 36.15,-2.3 ; 40.35,-6.5 43.65,-6.5 43.65,-3.2 40.35,-3.2 40.35,-6.5 ; 40.35,-2.3 43.65,-2.3 43.65,0.175 42.825,1 41.175,1 40.35,0.175 40.35,-2.3 ; 44.55,-6.5 47.85,-6.5 47.85,-4.025 47.025,-3.2 45.375,-3.2 44.55,-4.025 44.55,-6.5 ; 44.55,-2.3 47.85,-2.3 47.85,1 44.55,1 44.55,-2.3
  text "'.Designator'" at 19.053,0.71 h1
Top Courtyard:
  lines w0.254: -3.21,-9.25 49.41,-9.25 49.41,2.75 -3.21,2.75 -3.21,-9.25
Top Designator:
  text ".Designator" at 15.482,-3.758 h1.52

## Molex_Mini-Fit_Jr_5569-02A1_2x01_P4.20mm_Horizontal [mm]
pads (4):
  rrect9% 2.7x3.7 hole 1.8: 1(0,0)
  rrect100% 2.7x3.7 hole 1.8: 2(0,-5.5)
  round 3.2 hole 3.2: Un1(-4.5,4.2) Un2(4.5,4.2)
F.SilkS:
  lines w0.254: -2,0.99 -7.81,0.99 -7.81,7.41 -2.81,7.41 -2.81,14.01 0,14.01 2.81,14.01 2.81,7.41 7.81,7.41 7.81,0.99 2,0.99 ; -0.3,-3.39 -0.3,-2.11 ; 0.3,-3.39 0.3,-2.11 ; -2.6,-0.3 -2,0 -2.6,0.3 -2.6,-0.3
Top Assembly:
  lines w0.254: -2.7,7.3 -7.7,7.3 -7.7,1.1 -2.7,1.1 ; -1,1.1 0,2.514 1,1.1 ; 2.7,7.3 7.7,7.3 7.7,1.1 2.7,1.1 ; -2.7,1.1 2.7,1.1 ; -2.7,1.1 -2.7,13.9 2.7,13.9 2.7,1.1
  text "'.Designator'" at -4.047,12.36 h1
Top Courtyard:
  lines w0.254: -8.2,0.6 -1.85,0.6 -1.85,-7.85 0,-7.85 1.85,-7.85 1.85,0.6 8.2,0.6 8.2,7.8 3.2,7.8 3.2,14.4 0,14.4 -3.2,14.4 -3.2,7.8 -8.2,7.8 -8.2,0.6
Top Designator:
  text ".Designator" at -7.618,2.767 h1.52

## Molex_Mini-Fit_Jr_5569-02A2_2x01_P4.20mm_Horizontal [mm]
pads (3):
  rrect9% 2.7x3.7 hole 1.8: 1(0,0)
  rrect100% 2.7x3.7 hole 1.8: 2(0,-5.5)
  round 3 hole 3: Un1(0,7.3)
F.SilkS:
  lines w0.254: -2,0.99 -2.81,0.99 -2.81,14.01 0,14.01 2.81,14.01 2.81,0.99 2,0.99 ; -0.3,-3.39 -0.3,-2.11 ; 0.3,-3.39 0.3,-2.11 ; -2.6,-0.3 -2,0 -2.6,0.3 -2.6,-0.3
Top Assembly:
  lines w0.254: -1,1.1 0,2.514 1,1.1 ; -2.7,1.1 2.7,1.1 2.7,13.9 -2.7,13.9 -2.7,1.1
  text "'.Designator'" at -4.047,12.36 h1
Top Courtyard:
  lines w0.254: -3.2,-7.85 3.2,-7.85 3.2,14.4 -3.2,14.4 -3.2,-7.85
Top Designator:
  text ".Designator" at -7.768,2.767 h1.52

## Molex_Mini-Fit_Jr_5569-04A1_2x02_P4.20mm_Horizontal [mm]
pads (6):
  rrect9% 2.7x3.7 hole 1.8: 1(0,0)
  rrect100% 2.7x3.7 hole 1.8: 2(4.2,0) 3(0,-5.5) 4(4.2,-5.5)
  round 3.2 hole 3.2: Un1(-4.5,4.2) Un2(8.7,4.2)
F.SilkS:
  lines w0.254: -2,0.99 -7.81,0.99 -7.81,7.41 -2.81,7.41 -2.81,14.01 2.1,14.01 7.01,14.01 7.01,7.41 12.01,7.41 12.01,0.99 6.2,0.99 ; -0.3,-3.39 -0.3,-2.11 ; 0.3,-3.39 0.3,-2.11 ; 1.61,1 2.59,1 ; 3.9,-3.39 3.9,-2.11 ; 4.5,-3.39 4.5,-2.11 ; -2.6,-0.3 -2,0 -2.6,0.3 -2.6,-0.3
Top Assembly:
  lines w0.254: -2.7,7.3 -7.7,7.3 -7.7,1.1 -2.7,1.1 ; -1,1.1 0,2.514 1,1.1 ; 6.9,7.3 11.9,7.3 11.9,1.1 6.9,1.1 ; -2.7,1.1 6.9,1.1 ; -2.7,1.1 -2.7,13.9 6.9,13.9 6.9,1.1
  text "'.Designator'" at -1.947,12.36 h1
Top Courtyard:
  lines w0.254: -8.2,0.6 -1.85,0.6 -1.85,-7.85 2.1,-7.85 6.05,-7.85 6.05,0.6 12.4,0.6 12.4,7.8 7.4,7.8 7.4,14.4 2.1,14.4 -3.2,14.4 -3.2,7.8 -8.2,7.8 -8.2,0.6
Top Designator:
  text ".Designator" at -5.518,2.767 h1.52

## Molex_Mini-Fit_Jr_5569-04A2_2x02_P4.20mm_Horizontal [mm]
pads (5):
  rrect9% 2.7x3.7 hole 1.8: 1(0,0)
  rrect100% 2.7x3.7 hole 1.8: 2(4.2,0) 3(0,-5.5) 4(4.2,-5.5)
  round 3 hole 3: Un1(2.1,7.3)
F.SilkS:
  lines w0.254: -2,0.99 -2.81,0.99 -2.81,14.01 2.1,14.01 7.01,14.01 7.01,0.99 6.2,0.99 ; -0.3,-3.39 -0.3,-2.11 ; 0.3,-3.39 0.3,-2.11 ; 1.61,1 2.59,1 ; 3.9,-3.39 3.9,-2.11 ; 4.5,-3.39 4.5,-2.11 ; -2.6,-0.3 -2,0 -2.6,0.3 -2.6,-0.3
Top Assembly:
  lines w0.254: -1,1.1 0,2.514 1,1.1 ; -2.7,1.1 6.9,1.1 6.9,13.9 -2.7,13.9 -2.7,1.1
  text "'.Designator'" at -1.947,12.36 h1
Top Courtyard:
  lines w0.254: -3.2,-7.85 7.4,-7.85 7.4,14.4 -3.2,14.4 -3.2,-7.85
Top Designator:
  text ".Designator" at -5.518,2.767 h1.52

## Molex_Mini-Fit_Jr_5569-06A1_2x03_P4.20mm_Horizontal [mm]
pads (8):
  rrect9% 2.7x3.7 hole 1.8: 1(0,0)
  rrect100% 2.7x3.7 hole 1.8: 2(4.2,0) 3(8.4,0) 4(0,-5.5) 5(4.2,-5.5) 6(8.4,-5.5)
  round 3.2 hole 3.2: Un1(-4.5,4.2) Un2(12.9,4.2)
F.SilkS:
  lines w0.254: -2,0.99 -7.81,0.99 -7.81,7.41 -2.81,7.41 -2.81,14.01 4.2,14.01 11.21,14.01 11.21,7.41 16.21,7.41 16.21,0.99 10.4,0.99 ; -0.3,-3.39 -0.3,-2.11 ; 0.3,-3.39 0.3,-2.11 ; 1.61,1 2.59,1 ; 3.9,-3.39 3.9,-2.11 ; 4.5,-3.39 4.5,-2.11 ; 5.81,1 6.79,1 ; 8.1,-3.39 8.1,-2.11 ; 8.7,-3.39 8.7,-2.11 ; -2.6,-0.3 -2,0 -2.6,0.3 -2.6,-0.3
Top Assembly:
  lines w0.254: -2.7,7.3 -7.7,7.3 -7.7,1.1 -2.7,1.1 ; -1,1.1 0,2.514 1,1.1 ; 11.1,7.3 16.1,7.3 16.1,1.1 11.1,1.1 ; -2.7,1.1 11.1,1.1 ; -2.7,1.1 -2.7,13.9 11.1,13.9 11.1,1.1
  text "'.Designator'" at 0.153,12.36 h1
Top Courtyard:
  lines w0.254: -8.2,0.6 -1.85,0.6 -1.85,-7.85 4.2,-7.85 10.25,-7.85 10.25,0.6 16.6,0.6 16.6,7.8 11.6,7.8 11.6,14.4 4.2,14.4 -3.2,14.4 -3.2,7.8 -8.2,7.8 -8.2,0.6
Top Designator:
  text ".Designator" at -3.418,2.767 h1.52